# EAGLE library part ALPS-SRBV (library TomW)
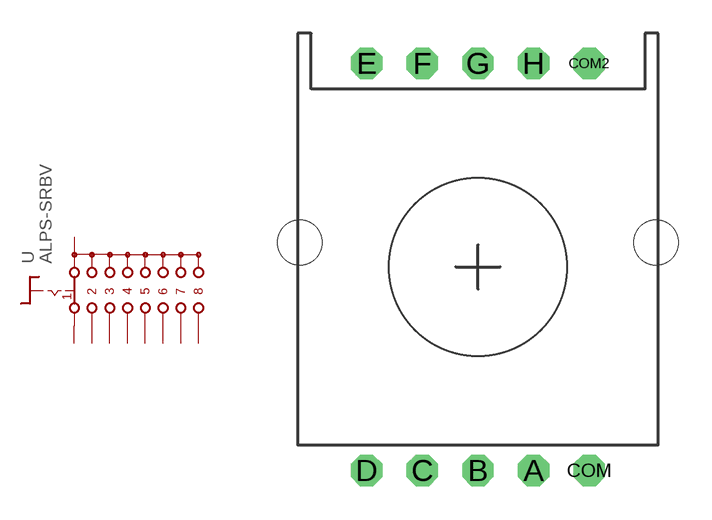
[diagram p8: symbol with the pads of ALPS-SRBV; footprint ALPS-SRBV]

Designator prefix -

## ALPS-SRBV  [ALPS-SRBV]
A  1  pas
B  2  pas
C  3  pas
COM  A  pas
COM2  A  pas
D  4  pas
E  5  pas
F  6  pas
G  7  pas
H  8  pas

## Footprint ALPS-SRBV (pad centres in mm)
drill 0.9 octagon: A 2.5,-9.15; B 0,-9.15; C -2.5,-9.15; COM 5,-9.15; COM2 5,9.15; D -5,-9.15; E -5,9.15; F -2.5,9.15; G 0,9.15; H 2.5,9.15
hole 2 at 8,1.1
hole 2 at -8,1.1